# Altium integrated library TI_Logic_Flip-Flop,Latch,Register.IntLib: 2598 symbols (part 9 of 122)
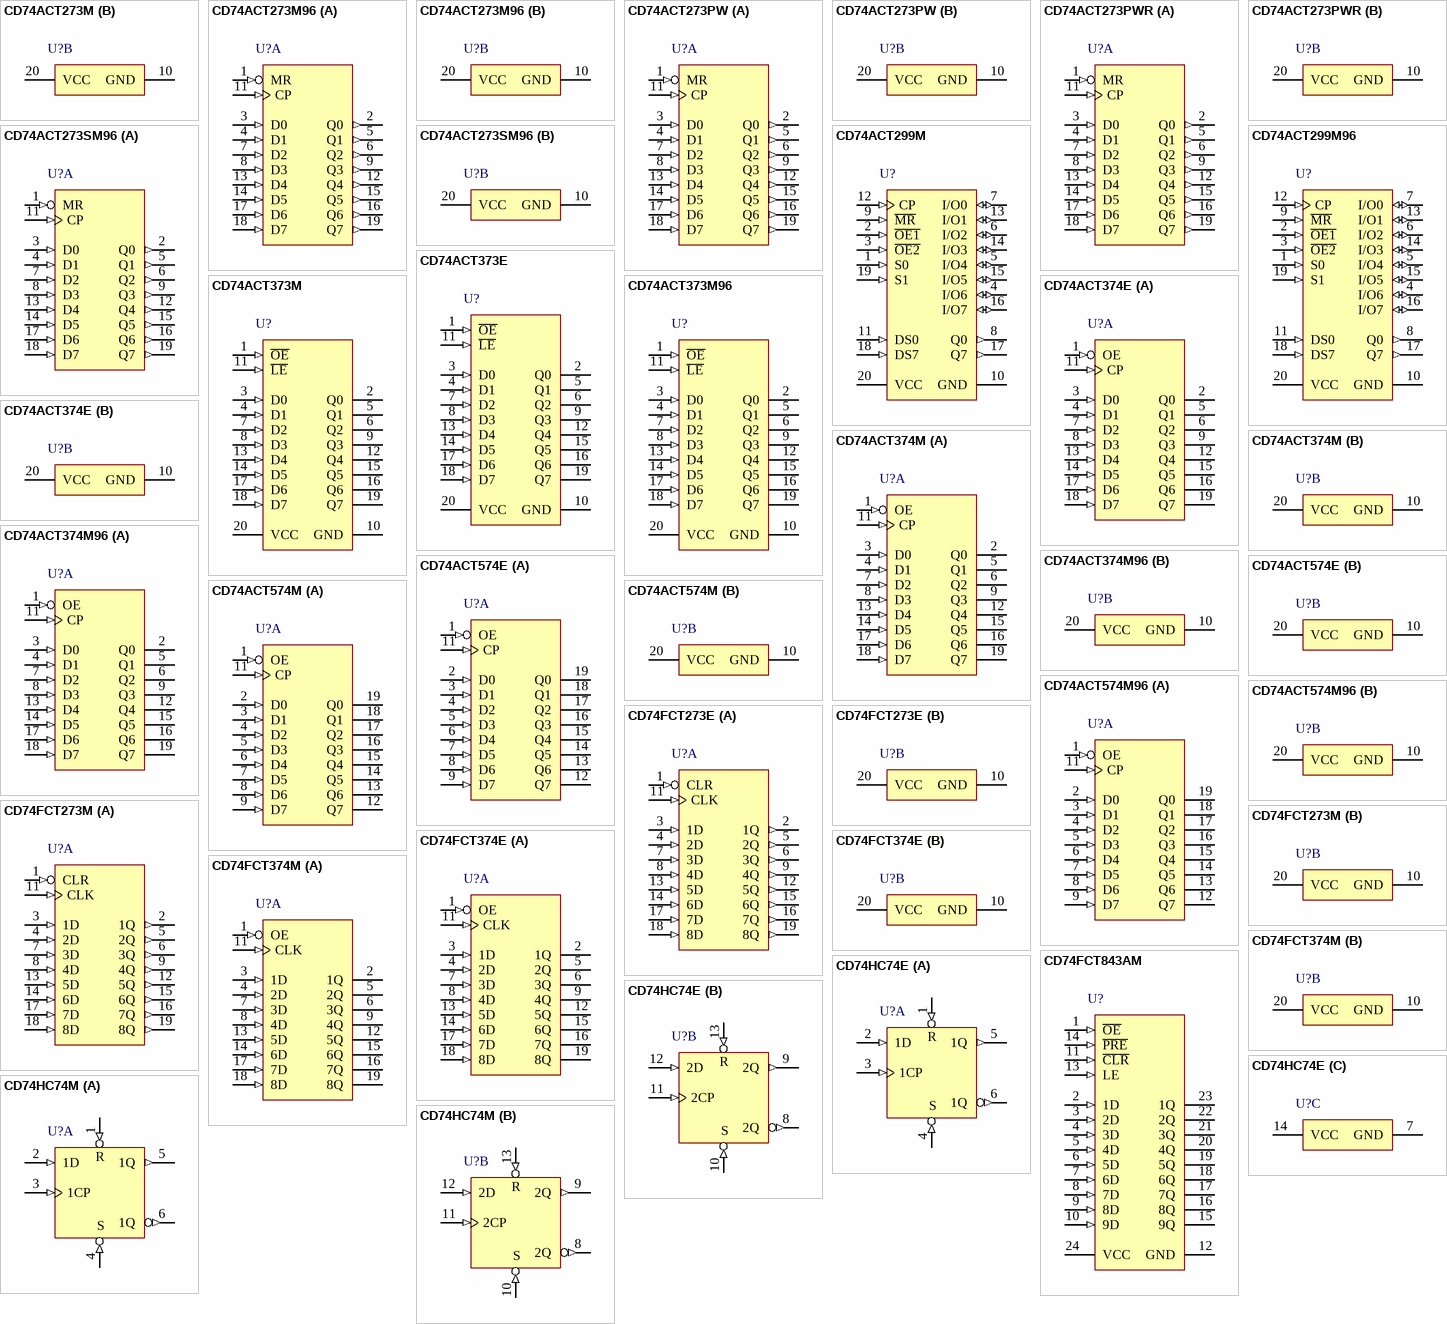
[diagram p147: symbols CD74ACT273M to CD74HC74M]

## CD74ACT374E
designator U?
Octal D-Type Flip-Flops with 3-State Outputs, N0020A, TUBE; Generic Part Number: CD74ACT374; Manufacturer: Texas Instruments; PartNumber: CD74ACT374E; VCC(Min)(V): 4.5; VCC(Max)(V): 5.5; Output Type: CMOS; ICC @ Nom Voltage(Max)(mA): 0.04; Input Type: TTL; Bits(#): 8; F @ Nom Voltage(Max)(Mhz): 90; Rating: Catalog; Technology Family: ACT; Voltage(Nom)(V): 5; Schmitt Trigger: No; Output Drive (IOL/IOH)(Max)(mA): 24/-24; Output Logic: Non-inverted; 3-State Output: Yes; tpd @ Nom Voltage(Max)(ns): 11.5; DatasheetVersion: SCHS290; PackageReference: N0020A; Supplier 1: Digi-Key; Supplier Part Number 1: 296-4279-5-ND; Supplier 2: Farnell; Supplier Part Number 2: 1739835; Supplier 3: Newark; Supplier Part Number 3: 50R5176; Supplier 4: Mouser; Supplier Part Number 4: 595-CD74ACT374E; Operating Temperature Range(C): -55 to 125; Code_JEDEC: MS-001; ComponentLink1Description: Manufacturer URL; ComponentLink1URL: http://www.ti.com/; ComponentLink2Description: Datasheet; ComponentLink2URL: http://www.ti.com/lit/ds/symlink/cd74act374.pdf; ComponentLink3Description: Package Specification; ComponentLink3URL: http://www.ti.com/lit/ml/mpdi002c/mpdi002c.pdf
footprint N0020A (DIP, 20-Leads, Body 26.9x6.6mm, Pitch 2.54mm)
part A pins: 1 OE (in), 2 Q0 (hiz), 3 D0 (in), 4 D1 (in), 5 Q1 (hiz), 6 Q2 (hiz), 7 D2 (in), 8 D3 (in), 9 Q3 (hiz), 11 CP (in), 12 Q4 (hiz), 13 D4 (in), 14 D5 (in), 15 Q5 (hiz), 16 Q6 (hiz), 17 D6 (in), 18 D7 (in), 19 Q7 (hiz)
part B pins: 10 GND (power), 20 VCC (power)

## CD74ACT374M
designator U?
Octal D-Type Flip-Flops with 3-State Outputs, DW0020A, TUBE; Generic Part Number: CD74ACT374; Manufacturer: Texas Instruments; PartNumber: CD74ACT374M; VCC(Min)(V): 4.5; VCC(Max)(V): 5.5; Output Type: CMOS; ICC @ Nom Voltage(Max)(mA): 0.04; Input Type: TTL; Bits(#): 8; F @ Nom Voltage(Max)(Mhz): 90; Rating: Catalog; Technology Family: ACT; Voltage(Nom)(V): 5; Schmitt Trigger: No; Output Drive (IOL/IOH)(Max)(mA): 24/-24; Output Logic: Non-inverted; 3-State Output: Yes; tpd @ Nom Voltage(Max)(ns): 11.5; DatasheetVersion: SCHS290; PackageReference: DW0020A; Supplier 1: Digi-Key; Supplier Part Number 1: 296-33000-5-ND; Supplier 2: Farnell; Supplier Part Number 2: 1103094; Supplier 3: Newark; Supplier Part Number 3: 25M8546; Supplier 4: Mouser; Supplier Part Number 4: 595-CD74ACT374M; Operating Temperature Range(C): -55 to 125; Code_JEDEC: MS-013; ComponentLink1Description: Manufacturer URL; ComponentLink1URL: http://www.ti.com/; ComponentLink2Description: Datasheet; ComponentLink2URL: http://www.ti.com/lit/ds/symlink/cd74act374.pdf; ComponentLink3Description: Package Specification; ComponentLink3URL: http://www.ti.com/lit/ml/mpds173a/mpds173a.pdf
footprint DW0020A_N (SOIC, 20-Leads, Body 13x7.6mm, Pitch 1.27mm, IPC Medium Density)
footprint DW0020A_M (SOIC, 20-Leads, Body 13x7.6mm, Pitch 1.27mm, IPC Low Density)
footprint DW0020A_L (SOIC, 20-Leads, Body 13x7.6mm, Pitch 1.27mm, IPC High Density)
part A pins: 1 OE (in), 2 Q0 (hiz), 3 D0 (in), 4 D1 (in), 5 Q1 (hiz), 6 Q2 (hiz), 7 D2 (in), 8 D3 (in), 9 Q3 (hiz), 11 CP (in), 12 Q4 (hiz), 13 D4 (in), 14 D5 (in), 15 Q5 (hiz), 16 Q6 (hiz), 17 D6 (in), 18 D7 (in), 19 Q7 (hiz)
part B pins: 10 GND (power), 20 VCC (power)

## CD74ACT374M96
designator U?
Octal D-Type Flip-Flops with 3-State Outputs, DW0020A, LARGE T&R; Generic Part Number: CD74ACT374; Manufacturer: Texas Instruments; PartNumber: CD74ACT374M96; VCC(Min)(V): 4.5; VCC(Max)(V): 5.5; Output Type: CMOS; ICC @ Nom Voltage(Max)(mA): 0.04; Input Type: TTL; Bits(#): 8; F @ Nom Voltage(Max)(Mhz): 90; Rating: Catalog; Technology Family: ACT; Voltage(Nom)(V): 5; Schmitt Trigger: No; Output Drive (IOL/IOH)(Max)(mA): 24/-24; Output Logic: Non-inverted; 3-State Output: Yes; tpd @ Nom Voltage(Max)(ns): 11.5; DatasheetVersion: SCHS290; PackageReference: DW0020A; Supplier 1: Digi-Key; Supplier Part Number 1: 296-14500-2-ND; Supplier 2: Digi-Key; Supplier Part Number 2: 296-14500-1-ND; Supplier 3: Digi-Key; Supplier Part Number 3: 296-14500-6-ND; Supplier 4: Newark; Supplier Part Number 4: 05B5665; Supplier 5: Mouser; Supplier Part Number 5: 595-CD74ACT374M96; Operating Temperature Range(C): -55 to 125; Code_JEDEC: MS-013; ComponentLink1Description: Manufacturer URL; ComponentLink1URL: http://www.ti.com/; ComponentLink2Description: Datasheet; ComponentLink2URL: http://www.ti.com/lit/ds/symlink/cd74act374.pdf; ComponentLink3Description: Package Specification; ComponentLink3URL: http://www.ti.com/lit/ml/mpds173a/mpds173a.pdf
footprint DW0020A_N (SOIC, 20-Leads, Body 13x7.6mm, Pitch 1.27mm, IPC Medium Density)
footprint DW0020A_M (SOIC, 20-Leads, Body 13x7.6mm, Pitch 1.27mm, IPC Low Density)
footprint DW0020A_L (SOIC, 20-Leads, Body 13x7.6mm, Pitch 1.27mm, IPC High Density)
part A pins: 1 OE (in), 2 Q0 (hiz), 3 D0 (in), 4 D1 (in), 5 Q1 (hiz), 6 Q2 (hiz), 7 D2 (in), 8 D3 (in), 9 Q3 (hiz), 11 CP (in), 12 Q4 (hiz), 13 D4 (in), 14 D5 (in), 15 Q5 (hiz), 16 Q6 (hiz), 17 D6 (in), 18 D7 (in), 19 Q7 (hiz)
part B pins: 10 GND (power), 20 VCC (power)

## CD74ACT574E
designator U?
Octal Non-Inverting D-Type Flip-Flops with 3-State Outputs, N0020A, TUBE; Generic Part Number: CD74ACT574; Manufacturer: Texas Instruments; PartNumber: CD74ACT574E; VCC(Min)(V): 4.5; VCC(Max)(V): 5.5; Output Type: CMOS; ICC @ Nom Voltage(Max)(mA): 0.04; Input Type: TTL; Bits(#): 8; F @ Nom Voltage(Max)(Mhz): 90; Rating: Catalog; Technology Family: ACT; Voltage(Nom)(V): 5; Schmitt Trigger: No; Output Drive (IOL/IOH)(Max)(mA): 24/-24; Output Logic: Non-inverted; 3-State Output: Yes; tpd @ Nom Voltage(Max)(ns): 12; DatasheetVersion: SCHS292; PackageReference: N0020A; Supplier 1: Digi-Key; Supplier Part Number 1: 296-33004-5-ND; Supplier 2: Newark; Supplier Part Number 2: 67K0099; Supplier 3: Mouser; Supplier Part Number 3: 595-CD74ACT574E; Operating Temperature Range(C): -55 to 125; Code_JEDEC: MS-001; ComponentLink1Description: Manufacturer URL; ComponentLink1URL: http://www.ti.com/; ComponentLink2Description: Datasheet; ComponentLink2URL: http://www.ti.com/lit/ds/symlink/cd74act574.pdf; ComponentLink3Description: Package Specification; ComponentLink3URL: http://www.ti.com/lit/ml/mpdi002c/mpdi002c.pdf
footprint N0020A (DIP, 20-Leads, Body 26.9x6.6mm, Pitch 2.54mm)
part A pins: 1 OE (in), 2 D0 (in), 3 D1 (in), 4 D2 (in), 5 D3 (in), 6 D4 (in), 7 D5 (in), 8 D6 (in), 9 D7 (in), 11 CP (in), 12 Q7 (hiz), 13 Q6 (hiz), 14 Q5 (hiz), 15 Q4 (hiz), 16 Q3 (hiz), 17 Q2 (hiz), 18 Q1 (hiz), 19 Q0 (hiz)
part B pins: 10 GND (power), 20 VCC (power)

## CD74ACT574M
designator U?
Octal Non-Inverting D-Type Flip-Flops with 3-State Outputs, DW0020A, TUBE; Generic Part Number: CD74ACT574; Manufacturer: Texas Instruments; PartNumber: CD74ACT574M; VCC(Min)(V): 4.5; VCC(Max)(V): 5.5; Output Type: CMOS; ICC @ Nom Voltage(Max)(mA): 0.04; Input Type: TTL; Bits(#): 8; F @ Nom Voltage(Max)(Mhz): 90; Rating: Catalog; Technology Family: ACT; Voltage(Nom)(V): 5; Schmitt Trigger: No; Output Drive (IOL/IOH)(Max)(mA): 24/-24; Output Logic: Non-inverted; 3-State Output: Yes; tpd @ Nom Voltage(Max)(ns): 12; DatasheetVersion: SCHS292; PackageReference: DW0020A; Supplier 1: Digi-Key; Supplier Part Number 1: 296-33005-5-ND; Supplier 2: Farnell; Supplier Part Number 2: 1103097; Supplier 3: Mouser; Supplier Part Number 3: 595-CD74ACT574M; Operating Temperature Range(C): -55 to 125; Code_JEDEC: MS-013; ComponentLink1Description: Manufacturer URL; ComponentLink1URL: http://www.ti.com/; ComponentLink2Description: Datasheet; ComponentLink2URL: http://www.ti.com/lit/ds/symlink/cd74act574.pdf; ComponentLink3Description: Package Specification; ComponentLink3URL: http://www.ti.com/lit/ml/mpds173a/mpds173a.pdf
footprint DW0020A_N (SOIC, 20-Leads, Body 13x7.6mm, Pitch 1.27mm, IPC Medium Density)
footprint DW0020A_M (SOIC, 20-Leads, Body 13x7.6mm, Pitch 1.27mm, IPC Low Density)
footprint DW0020A_L (SOIC, 20-Leads, Body 13x7.6mm, Pitch 1.27mm, IPC High Density)
part A pins: 1 OE (in), 2 D0 (in), 3 D1 (in), 4 D2 (in), 5 D3 (in), 6 D4 (in), 7 D5 (in), 8 D6 (in), 9 D7 (in), 11 CP (in), 12 Q7 (hiz), 13 Q6 (hiz), 14 Q5 (hiz), 15 Q4 (hiz), 16 Q3 (hiz), 17 Q2 (hiz), 18 Q1 (hiz), 19 Q0 (hiz)
part B pins: 10 GND (power), 20 VCC (power)

## CD74ACT574M96
designator U?
Octal Non-Inverting D-Type Flip-Flops with 3-State Outputs, DW0020A, LARGE T&R; Generic Part Number: CD74ACT574; Manufacturer: Texas Instruments; PartNumber: CD74ACT574M96; VCC(Min)(V): 4.5; VCC(Max)(V): 5.5; Output Type: CMOS; ICC @ Nom Voltage(Max)(mA): 0.04; Input Type: TTL; Bits(#): 8; F @ Nom Voltage(Max)(Mhz): 90; Rating: Catalog; Technology Family: ACT; Voltage(Nom)(V): 5; Schmitt Trigger: No; Output Drive (IOL/IOH)(Max)(mA): 24/-24; Output Logic: Non-inverted; 3-State Output: Yes; tpd @ Nom Voltage(Max)(ns): 12; DatasheetVersion: SCHS292; PackageReference: DW0020A; Supplier 1: Digi-Key; Supplier Part Number 1: 296-31557-2-ND; Supplier 2: Digi-Key; Supplier Part Number 2: 296-31557-1-ND; Supplier 3: Digi-Key; Supplier Part Number 3: 296-31557-6-ND; Supplier 4: Mouser; Supplier Part Number 4: 595-CD74ACT574M96; Operating Temperature Range(C): -55 to 125; Code_JEDEC: MS-013; ComponentLink1Description: Manufacturer URL; ComponentLink1URL: http://www.ti.com/; ComponentLink2Description: Datasheet; ComponentLink2URL: http://www.ti.com/lit/ds/symlink/cd74act574.pdf; ComponentLink3Description: Package Specification; ComponentLink3URL: http://www.ti.com/lit/ml/mpds173a/mpds173a.pdf
footprint DW0020A_N (SOIC, 20-Leads, Body 13x7.6mm, Pitch 1.27mm, IPC Medium Density)
footprint DW0020A_M (SOIC, 20-Leads, Body 13x7.6mm, Pitch 1.27mm, IPC Low Density)
footprint DW0020A_L (SOIC, 20-Leads, Body 13x7.6mm, Pitch 1.27mm, IPC High Density)
part A pins: 1 OE (in), 2 D0 (in), 3 D1 (in), 4 D2 (in), 5 D3 (in), 6 D4 (in), 7 D5 (in), 8 D6 (in), 9 D7 (in), 11 CP (in), 12 Q7 (hiz), 13 Q6 (hiz), 14 Q5 (hiz), 15 Q4 (hiz), 16 Q3 (hiz), 17 Q2 (hiz), 18 Q1 (hiz), 19 Q0 (hiz)
part B pins: 10 GND (power), 20 VCC (power)

## CD74FCT273E
designator U?
BiCMOS FCT Interface Logic Octal D-Type Flip-Flops with Reset, N0020A, TUBE; Generic Part Number: CD74FCT273; Manufacturer: Texas Instruments; PartNumber: CD74FCT273E; VCC(Min)(V): 4.75; VCC(Max)(V): 5.25; Output Type: CMOS; ICC @ Nom Voltage(Max)(mA): 0.08; Input Type: TTL; Bits(#): 8; F @ Nom Voltage(Max)(Mhz): 70; Rating: Military; Voltage(Nom)(V): 5; Schmitt Trigger: No; Output Drive (IOL/IOH)(Max)(mA): 48/-15; Output Logic: Non-inverted; tpd @ Nom Voltage(Max)(ns): 13; DatasheetVersion: SCBS737A; PackageReference: N0020A; Supplier 1: Digi-Key; Supplier Part Number 1: 296-33013-5-ND; Supplier 2: Farnell; Supplier Part Number 2: 1741075; Supplier 3: Newark; Supplier Part Number 3: 06F2824; Supplier 4: Mouser; Supplier Part Number 4: 595-CD74FCT273E; Operating Temperature Range(C): 0 to 70; Technology Family: FCT; 3-State Output: No; Code_JEDEC: MS-001; ComponentLink1Description: Manufacturer URL; ComponentLink1URL: http://www.ti.com/; ComponentLink2Description: Datasheet; ComponentLink2URL: http://www.ti.com/lit/ds/symlink/cd74fct273.pdf; ComponentLink3Description: Package Specification; ComponentLink3URL: http://www.ti.com/lit/ml/mpdi002c/mpdi002c.pdf
footprint N0020A (DIP, 20-Leads, Body 26.9x6.6mm, Pitch 2.54mm)
part A pins: 1 CLR (in) "Clear Pin", 2 1Q (out) "1Q Output", 3 1D (in) "1D Input", 4 2D (in) "2D Input", 5 2Q (out) "2Q Output", 6 3Q (out) "3Q Output", 7 3D (in) "3D Input", 8 4D (in) "4D Input", 9 4Q (out) "4Q Output", 11 CLK (in) "Clock Pin", 12 5Q (out) "5Q Output", 13 5D (in) "5D Input", 14 6D (in) "6D Input", 15 6Q (out) "6Q Output", 16 7Q (out) "7Q Output", 17 7D (in) "7D Input", 18 8D (in) "8D Input", 19 8Q (out) "8Q Output"
part B pins: 10 GND (power) "Ground Pin", 20 VCC (power) "Power Pin"

## CD74FCT273M
designator U?
BiCMOS FCT Interface Logic Octal D-Type Flip-Flops with Reset, DW0020A, TUBE; Generic Part Number: CD74FCT273; Manufacturer: Texas Instruments; PartNumber: CD74FCT273M; VCC(Min)(V): 4.75; VCC(Max)(V): 5.25; Output Type: CMOS; ICC @ Nom Voltage(Max)(mA): 0.08; Input Type: TTL; Bits(#): 8; F @ Nom Voltage(Max)(Mhz): 70; Rating: Military; Voltage(Nom)(V): 5; Schmitt Trigger: No; Output Drive (IOL/IOH)(Max)(mA): 48/-15; Output Logic: Non-inverted; tpd @ Nom Voltage(Max)(ns): 13; DatasheetVersion: SCBS737A; PackageReference: DW0020A; Supplier 1: Digi-Key; Supplier Part Number 1: CD74FCT273M-ND; Supplier 2: Farnell; Supplier Part Number 2: 1741076; Supplier 3: Mouser; Supplier Part Number 3: 595-CD74FCT273M; Operating Temperature Range(C): 0 to 70; Technology Family: FCT; 3-State Output: No; Code_JEDEC: MS-013; ComponentLink1Description: Manufacturer URL; ComponentLink1URL: http://www.ti.com/; ComponentLink2Description: Datasheet; ComponentLink2URL: http://www.ti.com/lit/ds/symlink/cd74fct273.pdf; ComponentLink3Description: Package Specification; ComponentLink3URL: http://www.ti.com/lit/ml/mpds173a/mpds173a.pdf
footprint DW0020A_N (SOIC, 20-Leads, Body 13x7.6mm, Pitch 1.27mm, IPC Medium Density)
footprint DW0020A_M (SOIC, 20-Leads, Body 13x7.6mm, Pitch 1.27mm, IPC Low Density)
footprint DW0020A_L (SOIC, 20-Leads, Body 13x7.6mm, Pitch 1.27mm, IPC High Density)
part A pins: 1 CLR (in) "Clear Pin", 2 1Q (out) "1Q Output", 3 1D (in) "1D Input", 4 2D (in) "2D Input", 5 2Q (out) "2Q Output", 6 3Q (out) "3Q Output", 7 3D (in) "3D Input", 8 4D (in) "4D Input", 9 4Q (out) "4Q Output", 11 CLK (in) "Clock Pin", 12 5Q (out) "5Q Output", 13 5D (in) "5D Input", 14 6D (in) "6D Input", 15 6Q (out) "6Q Output", 16 7Q (out) "7Q Output", 17 7D (in) "7D Input", 18 8D (in) "8D Input", 19 8Q (out) "8Q Output"
part B pins: 10 GND (power) "Ground Pin", 20 VCC (power) "Power Pin"

## CD74FCT374E
designator U?
BiCMOS FCT Interface Logic Octal D-Type Flip-Flops with 3-State Outputs, N0020A, TUBE; Generic Part Number: CD74FCT374; Manufacturer: Texas Instruments; PartNumber: CD74FCT374E; VCC(Min)(V): 4.75; VCC(Max)(V): 5.25; Output Type: CMOS; ICC @ Nom Voltage(Max)(mA): 0.08; Input Type: TTL; Bits(#): 8; F @ Nom Voltage(Max)(Mhz): 70; Rating: Catalog; Voltage(Nom)(V): 5; Schmitt Trigger: No; Output Drive (IOL/IOH)(Max)(mA): 48/-15; Output Logic: Non-inverted; 3-State Output: Yes; tpd @ Nom Voltage(Max)(ns): 10; DatasheetVersion: SCBS739; PackageReference: N0020A; Supplier 1: Digi-Key; Supplier Part Number 1: CD74FCT374E-ND; Supplier 2: Farnell; Supplier Part Number 2: 1749878; Supplier 3: Mouser; Supplier Part Number 3: 595-CD74FCT374E; Operating Temperature Range(C): 0 to 70; Technology Family: FCT; Code_JEDEC: MS-001; ComponentLink1Description: Manufacturer URL; ComponentLink1URL: http://www.ti.com/; ComponentLink2Description: Datasheet; ComponentLink2URL: http://www.ti.com/lit/ds/symlink/cd74fct374.pdf; ComponentLink3Description: Package Specification; ComponentLink3URL: http://www.ti.com/lit/ml/mpdi002c/mpdi002c.pdf
footprint N0020A (DIP, 20-Leads, Body 26.9x6.6mm, Pitch 2.54mm)
part A pins: 1 OE (in), 2 1Q (hiz), 3 1D (in), 4 2D (in), 5 2Q (hiz), 6 3Q (hiz), 7 3D (in), 8 4D (in), 9 4Q (hiz), 11 CLK (in), 12 5Q (hiz), 13 5D (in), 14 6D (in), 15 6Q (hiz), 16 7Q (hiz), 17 7D (in), 18 8D (in), 19 8Q (hiz)
part B pins: 10 GND (power), 20 VCC (power)

## CD74FCT374M
designator U?
BiCMOS FCT Interface Logic Octal D-Type Flip-Flops with 3-State Outputs, DW0020A, TUBE; Generic Part Number: CD74FCT374; Manufacturer: Texas Instruments; PartNumber: CD74FCT374M; VCC(Min)(V): 4.75; VCC(Max)(V): 5.25; Output Type: CMOS; ICC @ Nom Voltage(Max)(mA): 0.08; Input Type: TTL; Bits(#): 8; F @ Nom Voltage(Max)(Mhz): 70; Rating: Catalog; Voltage(Nom)(V): 5; Schmitt Trigger: No; Output Drive (IOL/IOH)(Max)(mA): 48/-15; Output Logic: Non-inverted; 3-State Output: Yes; tpd @ Nom Voltage(Max)(ns): 10; DatasheetVersion: SCBS739; PackageReference: DW0020A; Supplier 1: Digi-Key; Supplier Part Number 1: 296-9416-5-ND; Supplier 2: Farnell; Supplier Part Number 2: 1749879; Supplier 3: Mouser; Supplier Part Number 3: 595-CD74FCT374M; Operating Temperature Range(C): 0 to 70; Technology Family: FCT; Code_JEDEC: MS-013; ComponentLink1Description: Manufacturer URL; ComponentLink1URL: http://www.ti.com/; ComponentLink2Description: Datasheet; ComponentLink2URL: http://www.ti.com/lit/ds/symlink/cd74fct374.pdf; ComponentLink3Description: Package Specification; ComponentLink3URL: http://www.ti.com/lit/ml/mpds173a/mpds173a.pdf
footprint DW0020A_N (SOIC, 20-Leads, Body 13x7.6mm, Pitch 1.27mm, IPC Medium Density)
footprint DW0020A_M (SOIC, 20-Leads, Body 13x7.6mm, Pitch 1.27mm, IPC Low Density)
footprint DW0020A_L (SOIC, 20-Leads, Body 13x7.6mm, Pitch 1.27mm, IPC High Density)
part A pins: 1 OE (in), 2 1Q (hiz), 3 1D (in), 4 2D (in), 5 2Q (hiz), 6 3Q (hiz), 7 3D (in), 8 4D (in), 9 4Q (hiz), 11 CLK (in), 12 5Q (hiz), 13 5D (in), 14 6D (in), 15 6Q (hiz), 16 7Q (hiz), 17 7D (in), 18 8D (in), 19 8Q (hiz)
part B pins: 10 GND (power), 20 VCC (power)

## CD74FCT843AM
designator U?
BiCMOS FCT Interface Logic 9-Bit Non-Inverting Transparent Latches with 3-State Outputs, DW0024A, TUBE; Generic Part Number: CD74FCT843A; Manufacturer: Texas Instruments; PartNumber: CD74FCT843AM; VCC(Min)(V): 4.75; VCC(Max)(V): 5.25; Output Type: CMOS; ICC @ Nom Voltage(Max)(mA): 0.08; Input Type: TTL; Bits(#): 9; F @ Nom Voltage(Max)(Mhz): 70; Rating: Catalog; Voltage(Nom)(V): 5; Schmitt Trigger: No; Output Drive (IOL/IOH)(Max)(mA): 48/-15; Output Logic: Non-inverted; 3-State Output: Yes; tpd @ Nom Voltage(Max)(ns): 12; DatasheetVersion: SCBS727; PackageReference: DW0024A; Supplier 1: Digi-Key; Supplier Part Number 1: 296-9420-5-ND; Supplier 2: Mouser; Supplier Part Number 2: 595-CD74FCT843AM; Operating Temperature Range(C): 0 to 70; Technology Family: FCT; Code_JEDEC: MS-013; ComponentLink1Description: Manufacturer URL; ComponentLink1URL: http://www.ti.com/; ComponentLink2Description: Datasheet; ComponentLink2URL: http://www.ti.com/lit/ds/symlink/cd74fct843a.pdf; ComponentLink3Description: Package Specification; ComponentLink3URL: http://www.ti.com/lit/ml/mpds174a/mpds174a.pdf
footprint DW0024A_N (SOIC, 24-Leads, Body 15.6x7.6mm, Pitch 1.27mm, IPC Medium Density)
footprint DW0024A_M (SOIC, 24-Leads, Body 15.6x7.6mm, Pitch 1.27mm, IPC Low Density)
footprint DW0024A_L (SOIC, 24-Leads, Body 15.6x7.6mm, Pitch 1.27mm, IPC High Density)
pins: 1 ~{OE} (in), 2 1D (in), 3 2D (in), 4 3D (in), 5 4D (in), 6 5D (in), 7 6D (in), 8 7D (in), 9 8D (in), 10 9D (in), 11 ~{CLR} (in), 12 GND (power), 13 LE (in), 14 ~{PRE} (in), 15 9Q (hiz), 16 8Q (hiz), 17 7Q (hiz), 18 6Q (hiz), 19 5Q (hiz), 20 4Q (hiz), 21 3Q (hiz), 22 2Q (hiz), 23 1Q (hiz), 24 VCC (power)

## CD74HC74E
designator U?
High Speed CMOS Logic Dual Positive-Edge-Triggered D-Type Flip-Flops with Set and Reset, N0014A, TUBE; Generic Part Number: CD74HC74; Manufacturer: Texas Instruments; PartNumber: CD74HC74E; VCC(Min)(V): 2; VCC(Max)(V): 6; ICC @ Nom Voltage(Max)(mA): 0.04; F @ Nom Voltage(Max)(Mhz): 28; Rating: Catalog; Technology Family: HC; Voltage(Nom)(V): 3.3,5; Schmitt Trigger: No; Output Drive (IOL/IOH)(Max)(mA): 5.2/-5.2; Output Logic: Inverted,Non-inverted; tpd @ Nom Voltage(Max)(ns): 37; DatasheetVersion: SCHS124D; PackageReference: N0014A; Supplier 1: Digi-Key; Supplier Part Number 1: 296-12819-5-ND; Supplier 2: Farnell; Supplier Part Number 2: 1470817; Supplier 3: Newark; Supplier Part Number 3: 60K5166; Supplier 4: Mouser; Supplier Part Number 4: 595-CD74HC74E; Output Type: CMOS; Input Type: CMOS; Bits(#): 2; Operating Temperature Range(C): -55 to 125; 3-State Output: No; Code_JEDEC: MS-001; ComponentLink1Description: Manufacturer URL; ComponentLink1URL: http://www.ti.com/; ComponentLink2Description: Datasheet; ComponentLink2URL: http://www.ti.com/lit/ds/symlink/cd74hc74.pdf; ComponentLink3Description: Package Specification; ComponentLink3URL: http://www.ti.com/lit/ml/mpdi002c/mpdi002c.pdf
footprint N0014A (DIP, 14-Leads, Body 19.7x6.6mm, Pitch 2.54mm)
part A pins: 1 1~{R} (in), 2 1D (in), 3 1CP (in), 4 1~{S} (in), 5 1Q (out), 6 1Q (out)
part B pins: 8 2Q (out), 9 2Q (out), 10 2~{S} (in), 11 2CP (in), 12 2D (in), 13 2~{R} (in)
part C pins: 7 GND (power), 14 VCC (power)
part A text: R; S
part B text: R; S

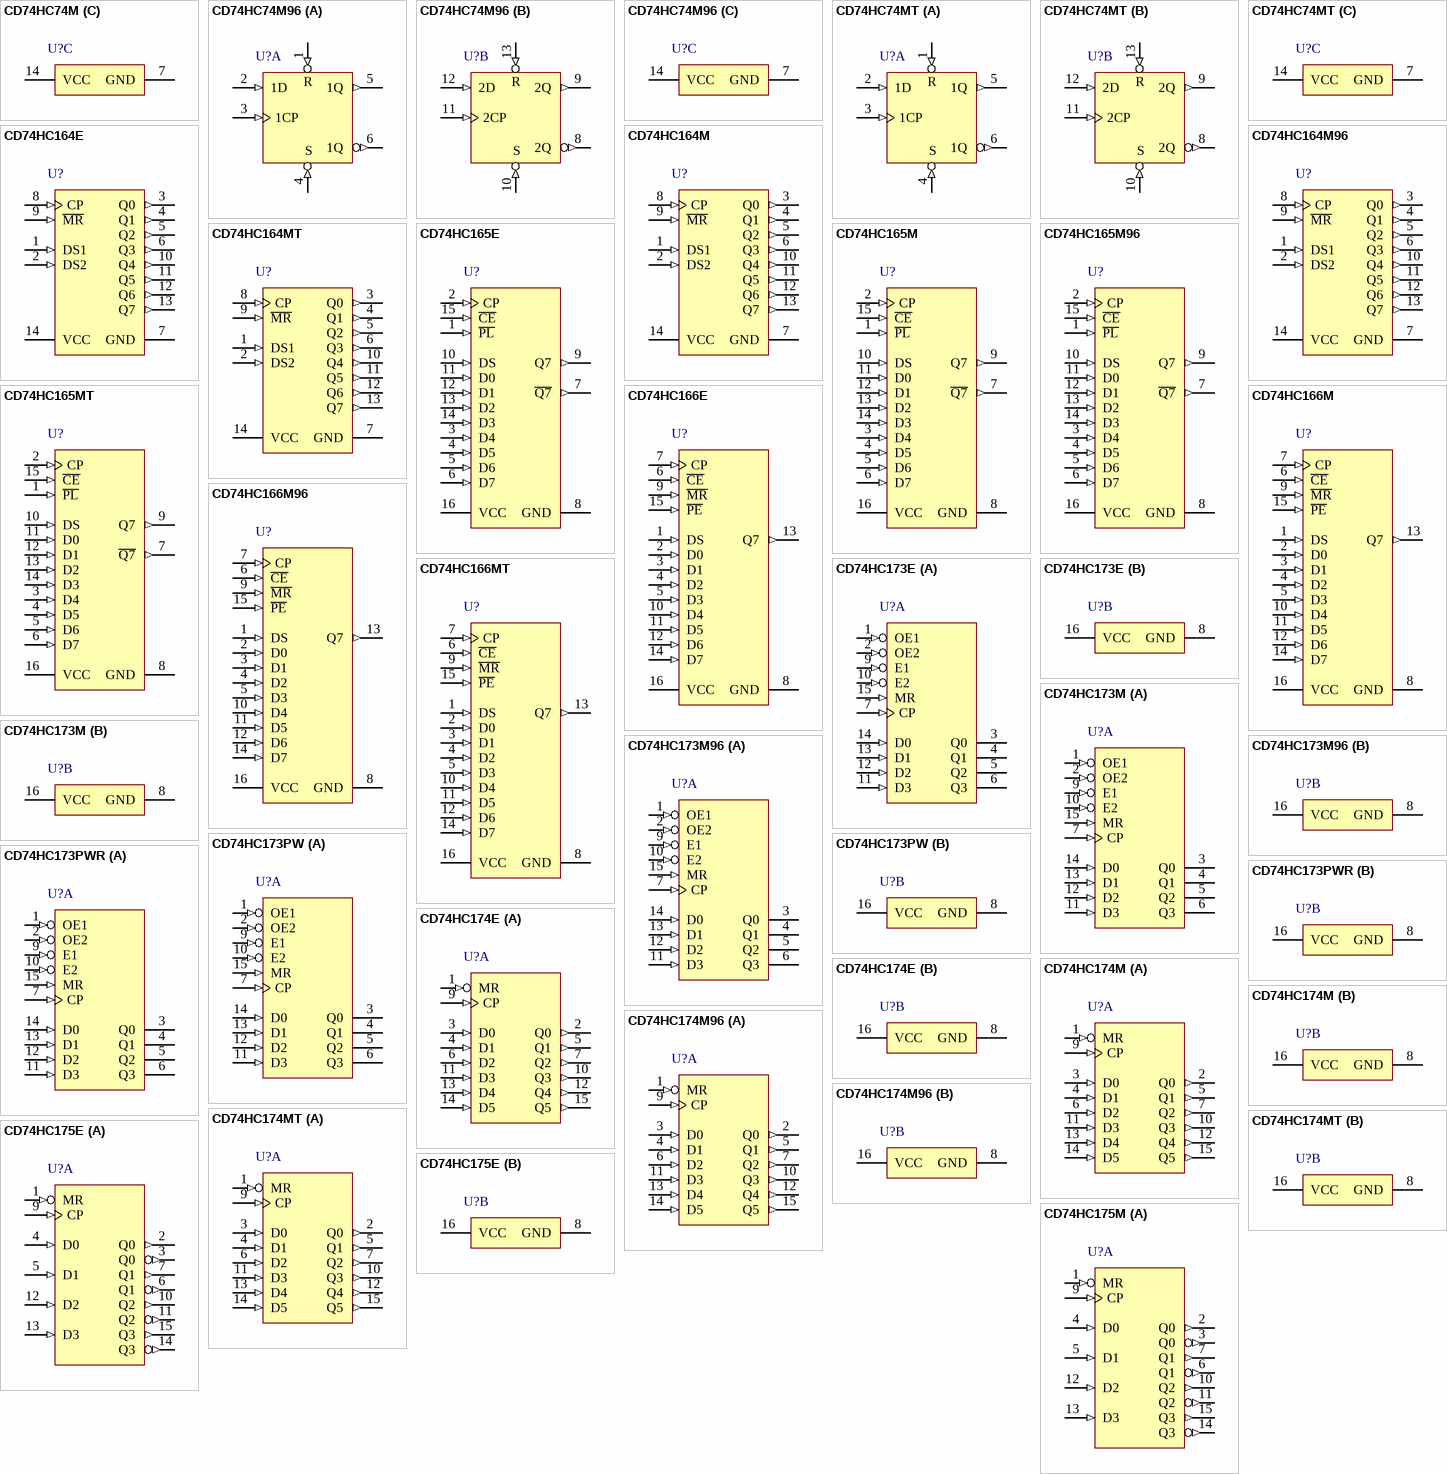
[diagram p13: symbols CD74HC74M to CD74HC175M]

## CD74HC74M
designator U?
High Speed CMOS Logic Dual Positive-Edge-Triggered D-Type Flip-Flops with Set and Reset, D0014A, TUBE; Generic Part Number: CD74HC74; Manufacturer: Texas Instruments; PartNumber: CD74HC74M; VCC(Min)(V): 2; VCC(Max)(V): 6; ICC @ Nom Voltage(Max)(mA): 0.04; F @ Nom Voltage(Max)(Mhz): 28; Rating: Catalog; Technology Family: HC; Voltage(Nom)(V): 3.3,5; Schmitt Trigger: No; Output Drive (IOL/IOH)(Max)(mA): 5.2/-5.2; Output Logic: Inverted,Non-inverted; tpd @ Nom Voltage(Max)(ns): 37; DatasheetVersion: SCHS124D; PackageReference: D0014A; Supplier 1: Digi-Key; Supplier Part Number 1: 296-12820-5-ND; Supplier 2: Farnell; Supplier Part Number 2: 1103175; Supplier 3: Newark; Supplier Part Number 3: 34K2420; Supplier 4: Mouser; Supplier Part Number 4: 595-CD74HC74M; Output Type: CMOS; Input Type: CMOS; Bits(#): 2; Operating Temperature Range(C): -55 to 125; 3-State Output: No; Code_JEDEC: MS-012; ComponentLink1Description: Manufacturer URL; ComponentLink1URL: http://www.ti.com/; ComponentLink2Description: Datasheet; ComponentLink2URL: http://www.ti.com/lit/ds/symlink/cd74hc74.pdf; ComponentLink3Description: Package Specification; ComponentLink3URL: http://www.ti.com/lit/ml/mpds177g/mpds177g.pdf
footprint D0014A_N (SOIC, 14-Leads, Body 8.75x4mm, Pitch 1.27mm, IPC Medium Density)
footprint D0014A_M (SOIC, 14-Leads, Body 8.75x4mm, Pitch 1.27mm, IPC Low Density)
footprint D0014A_L (SOIC, 14-Leads, Body 8.75x4mm, Pitch 1.27mm, IPC High Density)
part A pins: 1 1~{R} (in), 2 1D (in), 3 1CP (in), 4 1~{S} (in), 5 1Q (out), 6 1Q (out)
part B pins: 8 2Q (out), 9 2Q (out), 10 2~{S} (in), 11 2CP (in), 12 2D (in), 13 2~{R} (in)
part C pins: 7 GND (power), 14 VCC (power)
part A text: R; S
part B text: R; S

## CD74HC74M96
designator U?
High Speed CMOS Logic Dual Positive-Edge-Triggered D-Type Flip-Flops with Set and Reset, D0014A, LARGE T&R; Generic Part Number: CD74HC74; Manufacturer: Texas Instruments; PartNumber: CD74HC74M96; VCC(Min)(V): 2; VCC(Max)(V): 6; ICC @ Nom Voltage(Max)(mA): 0.04; F @ Nom Voltage(Max)(Mhz): 28; Rating: Catalog; Technology Family: HC; Voltage(Nom)(V): 3.3,5; Schmitt Trigger: No; Output Drive (IOL/IOH)(Max)(mA): 5.2/-5.2; Output Logic: Inverted,Non-inverted; tpd @ Nom Voltage(Max)(ns): 37; DatasheetVersion: SCHS124D; PackageReference: D0014A; Supplier 1: Digi-Key; Supplier Part Number 1: 296-14541-2-ND; Supplier 2: Digi-Key; Supplier Part Number 2: 296-14541-1-ND; Supplier 3: Digi-Key; Supplier Part Number 3: 296-14541-6-ND; Supplier 4: Farnell; Supplier Part Number 4: 2435699; Supplier 5: Newark; Supplier Part Number 5: 05B6181; Supplier 6: Mouser; Supplier Part Number 6: 595-CD74HC74M96; Output Type: CMOS; Input Type: CMOS; Bits(#): 2; Operating Temperature Range(C): -55 to 125; 3-State Output: No; Code_JEDEC: MS-012; ComponentLink1Description: Manufacturer URL; ComponentLink1URL: http://www.ti.com/; ComponentLink2Description: Datasheet; ComponentLink2URL: http://www.ti.com/lit/ds/symlink/cd74hc74.pdf; ComponentLink3Description: Package Specification; ComponentLink3URL: http://www.ti.com/lit/ml/mpds177g/mpds177g.pdf
footprint D0014A_N (SOIC, 14-Leads, Body 8.75x4mm, Pitch 1.27mm, IPC Medium Density)
footprint D0014A_M (SOIC, 14-Leads, Body 8.75x4mm, Pitch 1.27mm, IPC Low Density)
footprint D0014A_L (SOIC, 14-Leads, Body 8.75x4mm, Pitch 1.27mm, IPC High Density)
part A pins: 1 1~{R} (in), 2 1D (in), 3 1CP (in), 4 1~{S} (in), 5 1Q (out), 6 1Q (out)
part B pins: 8 2Q (out), 9 2Q (out), 10 2~{S} (in), 11 2CP (in), 12 2D (in), 13 2~{R} (in)
part C pins: 7 GND (power), 14 VCC (power)
part A text: R; S
part B text: R; S

## CD74HC74MT
designator U?
High Speed CMOS Logic Dual Positive-Edge-Triggered D-Type Flip-Flops with Set and Reset, D0014A, SMALL T&R; Generic Part Number: CD74HC74; Manufacturer: Texas Instruments; PartNumber: CD74HC74MT; VCC(Min)(V): 2; VCC(Max)(V): 6; ICC @ Nom Voltage(Max)(mA): 0.04; F @ Nom Voltage(Max)(Mhz): 28; Rating: Catalog; Technology Family: HC; Voltage(Nom)(V): 3.3,5; Schmitt Trigger: No; Output Drive (IOL/IOH)(Max)(mA): 5.2/-5.2; Output Logic: Inverted,Non-inverted; tpd @ Nom Voltage(Max)(ns): 37; DatasheetVersion: SCHS124D; PackageReference: D0014A; Supplier 1: Digi-Key; Supplier Part Number 1: 296-28582-2-ND; Supplier 2: Digi-Key; Supplier Part Number 2: 296-28582-1-ND; Supplier 3: Digi-Key; Supplier Part Number 3: 296-28582-6-ND; Supplier 4: Farnell; Supplier Part Number 4: 1741074; Supplier 5: Farnell; Supplier Part Number 5: 1741074RL; Supplier 6: Newark; Supplier Part Number 6: 82H3228; Supplier 7: Mouser; Supplier Part Number 7: 595-CD74HC74MT; Output Type: CMOS; Input Type: CMOS; Bits(#): 2; Operating Temperature Range(C): -55 to 125; 3-State Output: No; Code_JEDEC: MS-012; ComponentLink1Description: Manufacturer URL; ComponentLink1URL: http://www.ti.com/; ComponentLink2Description: Datasheet; ComponentLink2URL: http://www.ti.com/lit/ds/symlink/cd74hc74.pdf; ComponentLink3Description: Package Specification; ComponentLink3URL: http://www.ti.com/lit/ml/mpds177g/mpds177g.pdf
footprint D0014A_N (SOIC, 14-Leads, Body 8.75x4mm, Pitch 1.27mm, IPC Medium Density)
footprint D0014A_M (SOIC, 14-Leads, Body 8.75x4mm, Pitch 1.27mm, IPC Low Density)
footprint D0014A_L (SOIC, 14-Leads, Body 8.75x4mm, Pitch 1.27mm, IPC High Density)
part A pins: 1 1~{R} (in), 2 1D (in), 3 1CP (in), 4 1~{S} (in), 5 1Q (out), 6 1Q (out)
part B pins: 8 2Q (out), 9 2Q (out), 10 2~{S} (in), 11 2CP (in), 12 2D (in), 13 2~{R} (in)
part C pins: 7 GND (power), 14 VCC (power)
part A text: R; S
part B text: R; S

## CD74HC164E
designator U?
High Speed CMOS Logic 8-Bit Serial-In/Parallel-Out Shift Register, N0014A, TUBE; Generic Part Number: CD74HC164; Manufacturer: Texas Instruments; PartNumber: CD74HC164E; Technology Family: HC; VCC(Min)(V): 2; VCC(Max)(V): 6; F @ Nom Voltage(Max)(Mhz): 28; ICC @ Nom Voltage(Max)(mA): 0.08; tpd @ Nom Voltage(Max)(ns): 38; Output Drive (IOL/IOH)(Max)(mA): 5.2/-5.2; 3-State Output: No; Rating: Catalog; Bits: 4; DatasheetVersion: SCHS155C; PackageReference: N0014A; Voltage(Nom)(V): 6; Input Type: CMOS; Output Type: CMOS; Operating Temperature Range(C): -55 to 125; Code_JEDEC: MS-001; ComponentLink1Description: Manufacturer URL; ComponentLink1URL: http://www.ti.com/; ComponentLink2Description: Datasheet; ComponentLink2URL: http://www.ti.com/lit/ds/symlink/cd74hc164.pdf; ComponentLink3Description: Package Specification; ComponentLink3URL: http://www.ti.com/lit/ml/mpdi002c/mpdi002c.pdf
footprint N0014A (DIP, 14-Leads, Body 19.7x6.6mm, Pitch 2.54mm)
pins: 1 DS1 (in), 2 DS2 (in), 3 Q0 (out), 4 Q1 (out), 5 Q2 (out), 6 Q3 (out), 7 GND (power), 8 CP (in), 9 ~{MR} (in), 10 Q4 (out), 11 Q5 (out), 12 Q6 (out), 13 Q7 (out), 14 VCC (power)

## CD74HC164M
designator U?
High Speed CMOS Logic 8-Bit Serial-In/Parallel-Out Shift Register, D0014A, TUBE; Generic Part Number: CD74HC164; Manufacturer: Texas Instruments; PartNumber: CD74HC164M; Technology Family: HC; VCC(Min)(V): 2; VCC(Max)(V): 6; F @ Nom Voltage(Max)(Mhz): 28; ICC @ Nom Voltage(Max)(mA): 0.08; tpd @ Nom Voltage(Max)(ns): 38; Output Drive (IOL/IOH)(Max)(mA): 5.2/-5.2; 3-State Output: No; Rating: Catalog; Bits: 8; DatasheetVersion: SCHS155C; PackageReference: D0014A; Voltage(Nom)(V): 6; Input Type: CMOS; Output Type: CMOS; Operating Temperature Range(C): -55 to 125; Code_JEDEC: MS-012; ComponentLink1Description: Manufacturer URL; ComponentLink1URL: http://www.ti.com/; ComponentLink2Description: Datasheet; ComponentLink2URL: http://www.ti.com/lit/ds/symlink/cd74hc164.pdf; ComponentLink3Description: Package Specification; ComponentLink3URL: http://www.ti.com/lit/ml/mpds177g/mpds177g.pdf
footprint D0014A_N (SOIC, 14-Leads, Body 8.75x4mm, Pitch 1.27mm, IPC Medium Density)
footprint D0014A_M (SOIC, 14-Leads, Body 8.75x4mm, Pitch 1.27mm, IPC Low Density)
footprint D0014A_L (SOIC, 14-Leads, Body 8.75x4mm, Pitch 1.27mm, IPC High Density)
pins: 1 DS1 (in), 2 DS2 (in), 3 Q0 (out), 4 Q1 (out), 5 Q2 (out), 6 Q3 (out), 7 GND (power), 8 CP (in), 9 ~{MR} (in), 10 Q4 (out), 11 Q5 (out), 12 Q6 (out), 13 Q7 (out), 14 VCC (power)

## CD74HC164M96
designator U?
High Speed CMOS Logic 8-Bit Serial-In/Parallel-Out Shift Register, D0014A, LARGE T&R; Generic Part Number: CD74HC164; Manufacturer: Texas Instruments; PartNumber: CD74HC164M96; Technology Family: HC; VCC(Min)(V): 2; VCC(Max)(V): 6; F @ Nom Voltage(Max)(Mhz): 28; ICC @ Nom Voltage(Max)(mA): 0.08; tpd @ Nom Voltage(Max)(ns): 38; Output Drive (IOL/IOH)(Max)(mA): 5.2/-5.2; 3-State Output: No; Rating: Catalog; Bits: 8; DatasheetVersion: SCHS155C; PackageReference: D0014A; Voltage(Nom)(V): 6; Input Type: CMOS; Output Type: CMOS; Operating Temperature Range(C): -55 to 125; Code_JEDEC: MS-012; ComponentLink1Description: Manufacturer URL; ComponentLink1URL: http://www.ti.com/; ComponentLink2Description: Datasheet; ComponentLink2URL: http://www.ti.com/lit/ds/symlink/cd74hc164.pdf; ComponentLink3Description: Package Specification; ComponentLink3URL: http://www.ti.com/lit/ml/mpds177g/mpds177g.pdf
footprint D0014A_N (SOIC, 14-Leads, Body 8.75x4mm, Pitch 1.27mm, IPC Medium Density)
footprint D0014A_M (SOIC, 14-Leads, Body 8.75x4mm, Pitch 1.27mm, IPC Low Density)
footprint D0014A_L (SOIC, 14-Leads, Body 8.75x4mm, Pitch 1.27mm, IPC High Density)
pins: 1 DS1 (in), 2 DS2 (in), 3 Q0 (out), 4 Q1 (out), 5 Q2 (out), 6 Q3 (out), 7 GND (power), 8 CP (in), 9 ~{MR} (in), 10 Q4 (out), 11 Q5 (out), 12 Q6 (out), 13 Q7 (out), 14 VCC (power)

## CD74HC164MT
designator U?
High Speed CMOS Logic 8-Bit Serial-In/Parallel-Out Shift Register, D0014A, SMALL T&R; Generic Part Number: CD74HC164; Manufacturer: Texas Instruments; PartNumber: CD74HC164MT; Technology Family: HC; VCC(Min)(V): 2; VCC(Max)(V): 6; F @ Nom Voltage(Max)(Mhz): 28; ICC @ Nom Voltage(Max)(mA): 0.08; tpd @ Nom Voltage(Max)(ns): 38; Output Drive (IOL/IOH)(Max)(mA): 5.2/-5.2; 3-State Output: No; Rating: Catalog; Bits: 8; DatasheetVersion: SCHS155C; PackageReference: D0014A; Voltage(Nom)(V): 6; Input Type: CMOS; Output Type: CMOS; Operating Temperature Range(C): -55 to 125; Code_JEDEC: MS-012; ComponentLink1Description: Manufacturer URL; ComponentLink1URL: http://www.ti.com/; ComponentLink2Description: Datasheet; ComponentLink2URL: http://www.ti.com/lit/ds/symlink/cd74hc164.pdf; ComponentLink3Description: Package Specification; ComponentLink3URL: http://www.ti.com/lit/ml/mpds177g/mpds177g.pdf
footprint D0014A_N (SOIC, 14-Leads, Body 8.75x4mm, Pitch 1.27mm, IPC Medium Density)
footprint D0014A_M (SOIC, 14-Leads, Body 8.75x4mm, Pitch 1.27mm, IPC Low Density)
footprint D0014A_L (SOIC, 14-Leads, Body 8.75x4mm, Pitch 1.27mm, IPC High Density)
pins: 1 DS1 (in), 2 DS2 (in), 3 Q0 (out), 4 Q1 (out), 5 Q2 (out), 6 Q3 (out), 7 GND (power), 8 CP (in), 9 ~{MR} (in), 10 Q4 (out), 11 Q5 (out), 12 Q6 (out), 13 Q7 (out), 14 VCC (power)

## CD74HC165E
designator U?
High Speed CMOS Logic 8-Bit Parallel-In/Serial-Out Shift Register, N0016A, TUBE; Generic Part Number: CD74HC165; Manufacturer: Texas Instruments; PartNumber: CD74HC165E; Technology Family: HC; VCC(Min)(V): 2; VCC(Max)(V): 6; F @ Nom Voltage(Max)(Mhz): 28; ICC @ Nom Voltage(Max)(mA): 0.08; tpd @ Nom Voltage(Max)(ns): 32; Output Drive (IOL/IOH)(Max)(mA): 5.2/-5.2; 3-State Output: No; Rating: Catalog; Bits: 8; DatasheetVersion: SCHS156C; PackageReference: N0016A; Voltage(Nom)(V): 6; Input Type: CMOS; Output Type: CMOS; Operating Temperature Range(C): -55 to 125; Code_JEDEC: MS-001; ComponentLink1Description: Manufacturer URL; ComponentLink1URL: http://www.ti.com/; ComponentLink2Description: Datasheet; ComponentLink2URL: http://www.ti.com/lit/ds/symlink/cd74hc165.pdf; ComponentLink3Description: Package Specification; ComponentLink3URL: http://www.ti.com/lit/ml/mpdi002c/mpdi002c.pdf
footprint N0016A (DIP, 16-Leads, Body 19.7x6.6mm, Pitch 2.54mm)
pins: 1 ~{PL} (in), 2 CP (in), 3 D4 (in), 4 D5 (in), 5 D6 (in), 6 D7 (in), 7 ~{Q7} (out), 8 GND (power), 9 Q7 (out), 10 DS (in), 11 D0 (in), 12 D1 (in), 13 D2 (in), 14 D3 (in), 15 ~{CE} (in), 16 VCC (power)

## CD74HC165M
designator U?
High Speed CMOS Logic 8-Bit Parallel-In/Serial-Out Shift Register, D0016A, TUBE; Generic Part Number: CD74HC165; Manufacturer: Texas Instruments; PartNumber: CD74HC165M; Technology Family: HC; VCC(Min)(V): 2; VCC(Max)(V): 6; F @ Nom Voltage(Max)(Mhz): 28; ICC @ Nom Voltage(Max)(mA): 0.08; tpd @ Nom Voltage(Max)(ns): 32; Output Drive (IOL/IOH)(Max)(mA): 5.2/-5.2; 3-State Output: No; Rating: Catalog; DatasheetVersion: SCHS156C; PackageReference: D0016A; Voltage(Nom)(V): 6; Input Type: CMOS; Output Type: CMOS; Operating Temperature Range(C): -55 to 125; Code_JEDEC: MS-012 variation AC; ComponentLink1Description: Manufacturer URL; ComponentLink1URL: http://www.ti.com/; ComponentLink2Description: Datasheet; ComponentLink2URL: http://www.ti.com/lit/ds/symlink/cd74hc165.pdf; ComponentLink3Description: Package Specification; ComponentLink3URL: http://www.ti.com/lit/ml/mpds178g/mpds178g.pdf
footprint D0016A_N (SOIC, 16-Leads, Body 10x4mm, Pitch 1.27mm, IPC Medium Density)
footprint D0016A_M (SOIC, 16-Leads, Body 10x4mm, Pitch 1.27mm, IPC Low Density)
footprint D0016A_L (SOIC, 16-Leads, Body 10x4mm, Pitch 1.27mm, IPC High Density)
pins: 1 ~{PL} (in), 2 CP (in), 3 D4 (in), 4 D5 (in), 5 D6 (in), 6 D7 (in), 7 ~{Q7} (out), 8 GND (power), 9 Q7 (out), 10 DS (in), 11 D0 (in), 12 D1 (in), 13 D2 (in), 14 D3 (in), 15 ~{CE} (in), 16 VCC (power)

## CD74HC165M96
designator U?
High Speed CMOS Logic 8-Bit Parallel-In/Serial-Out Shift Register, D0016A, LARGE T&R; Generic Part Number: CD74HC165; Manufacturer: Texas Instruments; PartNumber: CD74HC165M96; Technology Family: HC; VCC(Min)(V): 2; VCC(Max)(V): 6; F @ Nom Voltage(Max)(Mhz): 28; ICC @ Nom Voltage(Max)(mA): 0.08; tpd @ Nom Voltage(Max)(ns): 32; Output Drive (IOL/IOH)(Max)(mA): 5.2/-5.2; 3-State Output: No; Rating: Catalog; DatasheetVersion: SCHS156C; PackageReference: D0016A; Voltage(Nom)(V): 6; Input Type: CMOS; Output Type: CMOS; Operating Temperature Range(C): -55 to 125; Code_JEDEC: MS-012 variation AC; ComponentLink1Description: Manufacturer URL; ComponentLink1URL: http://www.ti.com/; ComponentLink2Description: Datasheet; ComponentLink2URL: http://www.ti.com/lit/ds/symlink/cd74hc165.pdf; ComponentLink3Description: Package Specification; ComponentLink3URL: http://www.ti.com/lit/ml/mpds178g/mpds178g.pdf
footprint D0016A_N (SOIC, 16-Leads, Body 10x4mm, Pitch 1.27mm, IPC Medium Density)
footprint D0016A_M (SOIC, 16-Leads, Body 10x4mm, Pitch 1.27mm, IPC Low Density)
footprint D0016A_L (SOIC, 16-Leads, Body 10x4mm, Pitch 1.27mm, IPC High Density)
pins: 1 ~{PL} (in), 2 CP (in), 3 D4 (in), 4 D5 (in), 5 D6 (in), 6 D7 (in), 7 ~{Q7} (out), 8 GND (power), 9 Q7 (out), 10 DS (in), 11 D0 (in), 12 D1 (in), 13 D2 (in), 14 D3 (in), 15 ~{CE} (in), 16 VCC (power)

## CD74HC165MT
designator U?
High Speed CMOS Logic 8-Bit Parallel-In/Serial-Out Shift Register, D0016A, SMALL T&R; Generic Part Number: CD74HC165; Manufacturer: Texas Instruments; PartNumber: CD74HC165MT; Technology Family: HC; VCC(Min)(V): 2; VCC(Max)(V): 6; F @ Nom Voltage(Max)(Mhz): 28; ICC @ Nom Voltage(Max)(mA): 0.08; tpd @ Nom Voltage(Max)(ns): 32; Output Drive (IOL/IOH)(Max)(mA): 5.2/-5.2; 3-State Output: No; Rating: Catalog; Bits: 4; DatasheetVersion: SCHS156C; PackageReference: D0016A; Voltage(Nom)(V): 6; Input Type: CMOS; Output Type: CMOS; Operating Temperature Range(C): -55 to 125; Code_JEDEC: MS-012 variation AC; ComponentLink1Description: Manufacturer URL; ComponentLink1URL: http://www.ti.com/; ComponentLink2Description: Datasheet; ComponentLink2URL: http://www.ti.com/lit/ds/symlink/cd74hc165.pdf; ComponentLink3Description: Package Specification; ComponentLink3URL: http://www.ti.com/lit/ml/mpds178g/mpds178g.pdf
footprint D0016A_N (SOIC, 16-Leads, Body 10x4mm, Pitch 1.27mm, IPC Medium Density)
footprint D0016A_M (SOIC, 16-Leads, Body 10x4mm, Pitch 1.27mm, IPC Low Density)
footprint D0016A_L (SOIC, 16-Leads, Body 10x4mm, Pitch 1.27mm, IPC High Density)
pins: 1 ~{PL} (in), 2 CP (in), 3 D4 (in), 4 D5 (in), 5 D6 (in), 6 D7 (in), 7 ~{Q7} (out), 8 GND (power), 9 Q7 (out), 10 DS (in), 11 D0 (in), 12 D1 (in), 13 D2 (in), 14 D3 (in), 15 ~{CE} (in), 16 VCC (power)

## CD74HC166E
designator U?
High Speed CMOS Logic 8-Bit Parallel-In/Serial-Out Shift Register, N0016A, TUBE; Generic Part Number: CD74HC166; Manufacturer: Texas Instruments; PartNumber: CD74HC166E; Technology Family: HC; VCC(Min)(V): 2; VCC(Max)(V): 6; F @ Nom Voltage(Max)(Mhz): 28; ICC @ Nom Voltage(Max)(mA): 0.08; tpd @ Nom Voltage(Max)(ns): 32; Output Drive (IOL/IOH)(Max)(mA): 5.2/-5.2; 3-State Output: No; Rating: Catalog; Bits: 8; DatasheetVersion: SCHS157C; PackageReference: N0016A; Voltage(Nom)(V): 6; Input Type: CMOS; Output Type: CMOS; Operating Temperature Range(C): -55 to 125; Code_JEDEC: MS-001; ComponentLink1Description: Manufacturer URL; ComponentLink1URL: http://www.ti.com/; ComponentLink2Description: Datasheet; ComponentLink2URL: http://www.ti.com/lit/ds/symlink/cd74hc166.pdf; ComponentLink3Description: Package Specification; ComponentLink3URL: http://www.ti.com/lit/ml/mpdi002c/mpdi002c.pdf
footprint N0016A (DIP, 16-Leads, Body 19.7x6.6mm, Pitch 2.54mm)
pins: 1 DS (in), 2 D0 (in), 3 D1 (in), 4 D2 (in), 5 D3 (in), 6 ~{CE} (in), 7 CP (in), 8 GND (power), 9 ~{MR} (in), 10 D4 (in), 11 D5 (in), 12 D6 (in), 13 Q7 (out), 14 D7 (in), 15 ~{PE} (in), 16 VCC (power)

## CD74HC166M
designator U?
High Speed CMOS Logic 8-Bit Parallel-In/Serial-Out Shift Register, D0016A, TUBE; Generic Part Number: CD74HC166; Manufacturer: Texas Instruments; PartNumber: CD74HC166M; Technology Family: HC; VCC(Min)(V): 2; VCC(Max)(V): 6; F @ Nom Voltage(Max)(Mhz): 28; ICC @ Nom Voltage(Max)(mA): 0.08; tpd @ Nom Voltage(Max)(ns): 32; Output Drive (IOL/IOH)(Max)(mA): 5.2/-5.2; 3-State Output: No; Rating: Catalog; Bits: 8; DatasheetVersion: SCHS157C; PackageReference: D0016A; Voltage(Nom)(V): 6; Input Type: CMOS; Output Type: CMOS; Operating Temperature Range(C): -55 to 125; Code_JEDEC: MS-012 variation AC; ComponentLink1Description: Manufacturer URL; ComponentLink1URL: http://www.ti.com/; ComponentLink2Description: Datasheet; ComponentLink2URL: http://www.ti.com/lit/ds/symlink/cd74hc166.pdf; ComponentLink3Description: Package Specification; ComponentLink3URL: http://www.ti.com/lit/ml/mpds178g/mpds178g.pdf
footprint D0016A_N (SOIC, 16-Leads, Body 10x4mm, Pitch 1.27mm, IPC Medium Density)
footprint D0016A_M (SOIC, 16-Leads, Body 10x4mm, Pitch 1.27mm, IPC Low Density)
footprint D0016A_L (SOIC, 16-Leads, Body 10x4mm, Pitch 1.27mm, IPC High Density)
pins: 1 DS (in), 2 D0 (in), 3 D1 (in), 4 D2 (in), 5 D3 (in), 6 ~{CE} (in), 7 CP (in), 8 GND (power), 9 ~{MR} (in), 10 D4 (in), 11 D5 (in), 12 D6 (in), 13 Q7 (out), 14 D7 (in), 15 ~{PE} (in), 16 VCC (power)

## CD74HC166M96
designator U?
High Speed CMOS Logic 8-Bit Parallel-In/Serial-Out Shift Register, D0016A, LARGE T&R; Generic Part Number: CD74HC166; Manufacturer: Texas Instruments; PartNumber: CD74HC166M96; Technology Family: HC; VCC(Min)(V): 2; VCC(Max)(V): 6; F @ Nom Voltage(Max)(Mhz): 28; ICC @ Nom Voltage(Max)(mA): 0.08; tpd @ Nom Voltage(Max)(ns): 32; Output Drive (IOL/IOH)(Max)(mA): 5.2/-5.2; 3-State Output: No; Rating: Catalog; Bits: 8; DatasheetVersion: SCHS157C; PackageReference: D0016A; Voltage(Nom)(V): 6; Input Type: CMOS; Output Type: CMOS; Operating Temperature Range(C): -55 to 125; Code_JEDEC: MS-012 variation AC; ComponentLink1Description: Manufacturer URL; ComponentLink1URL: http://www.ti.com/; ComponentLink2Description: Datasheet; ComponentLink2URL: http://www.ti.com/lit/ds/symlink/cd74hc166.pdf; ComponentLink3Description: Package Specification; ComponentLink3URL: http://www.ti.com/lit/ml/mpds178g/mpds178g.pdf
footprint D0016A_N (SOIC, 16-Leads, Body 10x4mm, Pitch 1.27mm, IPC Medium Density)
footprint D0016A_M (SOIC, 16-Leads, Body 10x4mm, Pitch 1.27mm, IPC Low Density)
footprint D0016A_L (SOIC, 16-Leads, Body 10x4mm, Pitch 1.27mm, IPC High Density)
pins: 1 DS (in), 2 D0 (in), 3 D1 (in), 4 D2 (in), 5 D3 (in), 6 ~{CE} (in), 7 CP (in), 8 GND (power), 9 ~{MR} (in), 10 D4 (in), 11 D5 (in), 12 D6 (in), 13 Q7 (out), 14 D7 (in), 15 ~{PE} (in), 16 VCC (power)

## CD74HC166MT
designator U?
High Speed CMOS Logic 8-Bit Parallel-In/Serial-Out Shift Register, D0016A, SMALL T&R; Generic Part Number: CD74HC166; Manufacturer: Texas Instruments; PartNumber: CD74HC166MT; Technology Family: HC; VCC(Min)(V): 2; VCC(Max)(V): 6; F @ Nom Voltage(Max)(Mhz): 28; ICC @ Nom Voltage(Max)(mA): 0.08; tpd @ Nom Voltage(Max)(ns): 32; Output Drive (IOL/IOH)(Max)(mA): 5.2/-5.2; 3-State Output: No; Rating: Catalog; Bits: 8; DatasheetVersion: SCHS157C; PackageReference: D0016A; Voltage(Nom)(V): 6; Input Type: CMOS; Output Type: CMOS; Operating Temperature Range(C): -55 to 125; Code_JEDEC: MS-012 variation AC; ComponentLink1Description: Manufacturer URL; ComponentLink1URL: http://www.ti.com/; ComponentLink2Description: Datasheet; ComponentLink2URL: http://www.ti.com/lit/ds/symlink/cd74hc166.pdf; ComponentLink3Description: Package Specification; ComponentLink3URL: http://www.ti.com/lit/ml/mpds178g/mpds178g.pdf
footprint D0016A_N (SOIC, 16-Leads, Body 10x4mm, Pitch 1.27mm, IPC Medium Density)
footprint D0016A_M (SOIC, 16-Leads, Body 10x4mm, Pitch 1.27mm, IPC Low Density)
footprint D0016A_L (SOIC, 16-Leads, Body 10x4mm, Pitch 1.27mm, IPC High Density)
pins: 1 DS (in), 2 D0 (in), 3 D1 (in), 4 D2 (in), 5 D3 (in), 6 ~{CE} (in), 7 CP (in), 8 GND (power), 9 ~{MR} (in), 10 D4 (in), 11 D5 (in), 12 D6 (in), 13 Q7 (out), 14 D7 (in), 15 ~{PE} (in), 16 VCC (power)

## CD74HC173E
designator U?
High Speed CMOS Logic Quad D-Type Flip-Flops with 3-State Outputs, N0016A, TUBE; Generic Part Number: CD74HC173; Manufacturer: Texas Instruments; PartNumber: CD74HC173E; VCC(Min)(V): 2; VCC(Max)(V): 6; ICC @ Nom Voltage(Max)(mA): 0.08; Bits(#): 4; F @ Nom Voltage(Max)(Mhz): 28; Rating: Catalog; Technology Family: HC; Voltage(Nom)(V): 3.3,5; Schmitt Trigger: No; Output Drive (IOL/IOH)(Max)(mA): 7.8/-7.8; Output Logic: Non-inverted; 3-State Output: Yes; tpd @ Nom Voltage(Max)(ns): 43; DatasheetVersion: SCHS158E; PackageReference: N0016A; Supplier 1: Digi-Key; Supplier Part Number 1: 296-25977-5-ND; Supplier 2: Farnell; Supplier Part Number 2: 1739836; Supplier 3: Newark; Supplier Part Number 3: 50R5350; Supplier 4: Mouser; Supplier Part Number 4: 595-CD74HC173E; Output Type: CMOS; Input Type: CMOS; Operating Temperature Range(C): -55 to 125; Code_JEDEC: MS-001; ComponentLink1Description: Manufacturer URL; ComponentLink1URL: http://www.ti.com/; ComponentLink2Description: Datasheet; ComponentLink2URL: http://www.ti.com/lit/ds/symlink/cd74hc173.pdf; ComponentLink3Description: Package Specification; ComponentLink3URL: http://www.ti.com/lit/ml/mpdi002c/mpdi002c.pdf
footprint N0016A (DIP, 16-Leads, Body 19.7x6.6mm, Pitch 2.54mm)
part A pins: 1 OE1 (in), 2 OE2 (in), 3 Q0 (hiz), 4 Q1 (hiz), 5 Q2 (hiz), 6 Q3 (hiz), 7 CP (in), 9 E1 (in), 10 E2 (in), 11 D3 (in), 12 D2 (in), 13 D1 (in), 14 D0 (in), 15 MR (in)
part B pins: 8 GND (power), 16 VCC (power)

## CD74HC173M
designator U?
High Speed CMOS Logic Quad D-Type Flip-Flops with 3-State Outputs, D0016A, TUBE; Generic Part Number: CD74HC173; Manufacturer: Texas Instruments; PartNumber: CD74HC173M; VCC(Min)(V): 2; VCC(Max)(V): 6; ICC @ Nom Voltage(Max)(mA): 0.08; Bits(#): 4; F @ Nom Voltage(Max)(Mhz): 28; Rating: Catalog; Technology Family: HC; Voltage(Nom)(V): 3.3,5; Schmitt Trigger: No; Output Drive (IOL/IOH)(Max)(mA): 7.8/-7.8; Output Logic: Non-inverted; 3-State Output: Yes; tpd @ Nom Voltage(Max)(ns): 43; DatasheetVersion: SCHS158E; PackageReference: D0016A; Supplier 1: Digi-Key; Supplier Part Number 1: 296-33035-5-ND; Supplier 2: Farnell; Supplier Part Number 2: 1739837; Supplier 3: Newark; Supplier Part Number 3: 50R5351; Supplier 4: Mouser; Supplier Part Number 4: 595-CD74HC173M; Output Type: CMOS; Input Type: CMOS; Operating Temperature Range(C): -55 to 125; Code_JEDEC: MS-012 variation AC; ComponentLink1Description: Manufacturer URL; ComponentLink1URL: http://www.ti.com/; ComponentLink2Description: Datasheet; ComponentLink2URL: http://www.ti.com/lit/ds/symlink/cd74hc173.pdf; ComponentLink3Description: Package Specification; ComponentLink3URL: http://www.ti.com/lit/ml/mpds178g/mpds178g.pdf
footprint D0016A_N (SOIC, 16-Leads, Body 10x4mm, Pitch 1.27mm, IPC Medium Density)
footprint D0016A_M (SOIC, 16-Leads, Body 10x4mm, Pitch 1.27mm, IPC Low Density)
footprint D0016A_L (SOIC, 16-Leads, Body 10x4mm, Pitch 1.27mm, IPC High Density)
part A pins: 1 OE1 (in), 2 OE2 (in), 3 Q0 (hiz), 4 Q1 (hiz), 5 Q2 (hiz), 6 Q3 (hiz), 7 CP (in), 9 E1 (in), 10 E2 (in), 11 D3 (in), 12 D2 (in), 13 D1 (in), 14 D0 (in), 15 MR (in)
part B pins: 8 GND (power), 16 VCC (power)

## CD74HC173M96
designator U?
High Speed CMOS Logic Quad D-Type Flip-Flops with 3-State Outputs, D0016A, LARGE T&R; Generic Part Number: CD74HC173; Manufacturer: Texas Instruments; PartNumber: CD74HC173M96; VCC(Min)(V): 2; VCC(Max)(V): 6; ICC @ Nom Voltage(Max)(mA): 0.08; Bits(#): 4; F @ Nom Voltage(Max)(Mhz): 28; Rating: Catalog; Technology Family: HC; Voltage(Nom)(V): 3.3,5; Schmitt Trigger: No; Output Drive (IOL/IOH)(Max)(mA): 7.8/-7.8; Output Logic: Non-inverted; 3-State Output: Yes; tpd @ Nom Voltage(Max)(ns): 43; DatasheetVersion: SCHS158E; PackageReference: D0016A; Supplier 1: Digi-Key; Supplier Part Number 1: 296-31571-2-ND; Supplier 2: Digi-Key; Supplier Part Number 2: 296-31571-1-ND; Supplier 3: Digi-Key; Supplier Part Number 3: 296-31571-6-ND; Supplier 4: Farnell; Supplier Part Number 4: 2499852; Supplier 5: Newark; Supplier Part Number 5: 68Y7646; Supplier 6: Mouser; Supplier Part Number 6: 595-CD74HC173M96; Output Type: CMOS; Input Type: CMOS; Operating Temperature Range(C): -55 to 125; Code_JEDEC: MS-012 variation AC; ComponentLink1Description: Manufacturer URL; ComponentLink1URL: http://www.ti.com/; ComponentLink2Description: Datasheet; ComponentLink2URL: http://www.ti.com/lit/ds/symlink/cd74hc173.pdf; ComponentLink3Description: Package Specification; ComponentLink3URL: http://www.ti.com/lit/ml/mpds178g/mpds178g.pdf
footprint D0016A_N (SOIC, 16-Leads, Body 10x4mm, Pitch 1.27mm, IPC Medium Density)
footprint D0016A_M (SOIC, 16-Leads, Body 10x4mm, Pitch 1.27mm, IPC Low Density)
footprint D0016A_L (SOIC, 16-Leads, Body 10x4mm, Pitch 1.27mm, IPC High Density)
part A pins: 1 OE1 (in), 2 OE2 (in), 3 Q0 (hiz), 4 Q1 (hiz), 5 Q2 (hiz), 6 Q3 (hiz), 7 CP (in), 9 E1 (in), 10 E2 (in), 11 D3 (in), 12 D2 (in), 13 D1 (in), 14 D0 (in), 15 MR (in)
part B pins: 8 GND (power), 16 VCC (power)

## CD74HC173PW
designator U?
High Speed CMOS Logic Quad D-Type Flip-Flops with 3-State Outputs, PW0016A, TUBE; Generic Part Number: CD74HC173; Manufacturer: Texas Instruments; PartNumber: CD74HC173PW; VCC(Min)(V): 2; VCC(Max)(V): 6; ICC @ Nom Voltage(Max)(mA): 0.08; Bits(#): 4; F @ Nom Voltage(Max)(Mhz): 28; Rating: Catalog; Technology Family: HC; Voltage(Nom)(V): 3.3,5; Schmitt Trigger: No; Output Drive (IOL/IOH)(Max)(mA): 7.8/-7.8; Output Logic: Non-inverted; 3-State Output: Yes; tpd @ Nom Voltage(Max)(ns): 43; DatasheetVersion: SCHS158E; PackageReference: PW0016A; Supplier 1: Digi-Key; Supplier Part Number 1: 296-33036-5-ND; Supplier 2: Farnell; Supplier Part Number 2: 1741077; Supplier 3: Mouser; Supplier Part Number 3: 595-CD74HC173PW; Output Type: CMOS; Input Type: CMOS; Operating Temperature Range(C): -55 to 125; Code_JEDEC: MO-153; ComponentLink1Description: Manufacturer URL; ComponentLink1URL: http://www.ti.com/; ComponentLink2Description: Datasheet; ComponentLink2URL: http://www.ti.com/lit/ds/symlink/cd74hc173.pdf; ComponentLink3Description: Package Specification; ComponentLink3URL: http://www.ti.com/lit/ml/mpds361/mpds361.pdf
footprint PW0016A_N (SOP, 16-Leads, Body 5.1x4.5mm, Pitch 0.65mm, IPC Medium Density)
footprint PW0016A_M (SOP, 16-Leads, Body 5.1x4.5mm, Pitch 0.65mm, IPC Low Density)
footprint PW0016A_L (SOP, 16-Leads, Body 5.1x4.5mm, Pitch 0.65mm, IPC High Density)
part A pins: 1 OE1 (in), 2 OE2 (in), 3 Q0 (hiz), 4 Q1 (hiz), 5 Q2 (hiz), 6 Q3 (hiz), 7 CP (in), 9 E1 (in), 10 E2 (in), 11 D3 (in), 12 D2 (in), 13 D1 (in), 14 D0 (in), 15 MR (in)
part B pins: 8 GND (power), 16 VCC (power)

## CD74HC173PWR
designator U?
High Speed CMOS Logic Quad D-Type Flip-Flops with 3-State Outputs, PW0016A, LARGE T&R; Generic Part Number: CD74HC173; Manufacturer: Texas Instruments; PartNumber: CD74HC173PWR; VCC(Min)(V): 2; VCC(Max)(V): 6; ICC @ Nom Voltage(Max)(mA): 0.08; Bits(#): 4; F @ Nom Voltage(Max)(Mhz): 28; Rating: Catalog; Technology Family: HC; Voltage(Nom)(V): 3.3,5; Schmitt Trigger: No; Output Drive (IOL/IOH)(Max)(mA): 7.8/-7.8; Output Logic: Non-inverted; 3-State Output: Yes; tpd @ Nom Voltage(Max)(ns): 43; DatasheetVersion: SCHS158E; PackageReference: PW0016A; Supplier 1: Digi-Key; Supplier Part Number 1: 296-12792-2-ND; Supplier 2: Digi-Key; Supplier Part Number 2: 296-12792-1-ND; Supplier 3: Digi-Key; Supplier Part Number 3: 296-12792-6-ND; Supplier 4: Mouser; Supplier Part Number 4: 595-CD74HC173PWR; Output Type: CMOS; Input Type: CMOS; Operating Temperature Range(C): -55 to 125; Code_JEDEC: MO-153; ComponentLink1Description: Manufacturer URL; ComponentLink1URL: http://www.ti.com/; ComponentLink2Description: Datasheet; ComponentLink2URL: http://www.ti.com/lit/ds/symlink/cd74hc173.pdf; ComponentLink3Description: Package Specification; ComponentLink3URL: http://www.ti.com/lit/ml/mpds361/mpds361.pdf
footprint PW0016A_N (SOP, 16-Leads, Body 5.1x4.5mm, Pitch 0.65mm, IPC Medium Density)
footprint PW0016A_M (SOP, 16-Leads, Body 5.1x4.5mm, Pitch 0.65mm, IPC Low Density)
footprint PW0016A_L (SOP, 16-Leads, Body 5.1x4.5mm, Pitch 0.65mm, IPC High Density)
part A pins: 1 OE1 (in), 2 OE2 (in), 3 Q0 (hiz), 4 Q1 (hiz), 5 Q2 (hiz), 6 Q3 (hiz), 7 CP (in), 9 E1 (in), 10 E2 (in), 11 D3 (in), 12 D2 (in), 13 D1 (in), 14 D0 (in), 15 MR (in)
part B pins: 8 GND (power), 16 VCC (power)